# Altium schematic symbol library Drivers.SchLib: 2 symbols
Pins are listed as number, name and electrical type; pins without a type are passive.

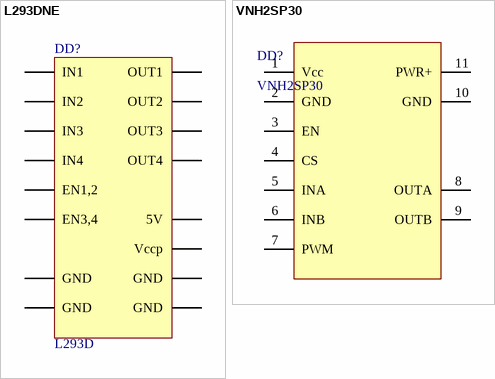
[diagram p0: symbols L293DNE to VNH2SP30]

## L293DNE
designator DD?, comment L293D
Драйвер двигателей; Manufacturer: Texas Instruments; Notes: Китай говно; ComponentLink1Description: Dasheet; ComponentLink1URL: http://html.alldatasheet.com/html-pdf/99683/STMICROELECTRONICS/L293D/8115/5/L293D.html; ComponentLink2Description: Datasheet-local; ComponentLink2URL: *; Cost: 40; ManufacturerPartNumber: L293D; Package: PDIP; Supplier: Aliexpress
footprint DIP16
pins: 1 EN1,2, 2 IN1, 3 OUT1, 4 GND, 5 GND, 6 OUT2, 7 IN2, 8 Vccp, 9 EN3,4, 10 IN3, 11 OUT3, 12 GND, 13 GND, 14 OUT4, 15 IN4, 16 5V

## VNH2SP30
designator DD?
Full Bridge MotorDriver; Manufacturer: CJMCU; ManufacturerPartNumber: VNH2SP30; ComponentLink1Description: Datasheet; ComponentLink1URL: http://www.st.com/content/ccc/resource/technical/document/datasheet/group2/66/b8/f5/2c/9a/66/41/c7/CD00043711/files/CD00043711.pdf/jcr:content/translations/en.CD00043711.pdf; Price: 0; Supplier: AliExpress
footprint VNH2SP30 (Driver Board)
pins: 1 Vcc, 2 GND, 3 EN, 4 CS, 5 INA, 6 INB, 7 PWM, 8 OUTA, 9 OUTB, 10 GND, 11 PWR+